# Altium schematic symbol library LME49724.Schlib: 1 symbol
Pins are listed as number, name and electrical type; pins without a type are passive.

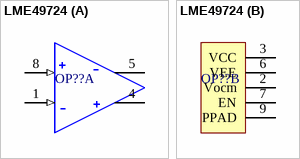
[diagram p0: symbol LME49724]

## LME49724
designator OP??
part A pins: 1 (in), 4, 5, 8 (in)
part B pins: 2 Vocm (power), 3 VCC (power), 6 VEE (power), 7 EN (power), 9 PPAD (power)